# EAGLE library part 26C31 (library jocki)
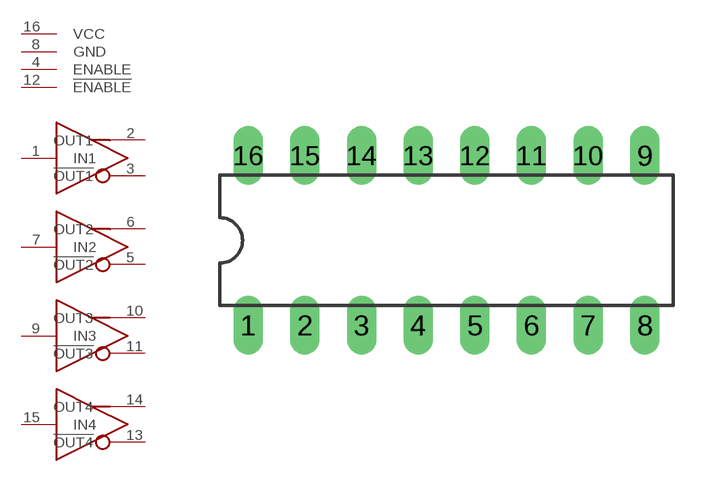
[diagram p1: symbol with the pads of DIL16; footprint DIL16]

Designator prefix -

## 26C31  [DIL16]
1  IN1
2  OUT1
3  !OUT1
4  ENABLE
5  !OUT2
6  OUT2
7  IN2
8  GND
9  IN3
10  OUT3
11  !OUT3
12  !ENABLE
13  !OUT4
14  OUT4
15  IN4
16  VCC

## Footprint DIL16 (pad centres in mm)
Dual In Line Package
drill 0.813 long: 1 -7.62,-3.81; 2 -5.08,-3.81; 3 -2.54,-3.81; 4 0,-3.81; 5 2.54,-3.81; 6 5.08,-3.81; 7 7.62,-3.81; 8 10.16,-3.81; 9 10.16,3.81; 10 7.62,3.81; 11 5.08,3.81; 12 2.54,3.81; 13 0,3.81; 14 -2.54,3.81; 15 -5.08,3.81; 16 -7.62,3.81